# Altium footprint library OptoDevice.PcbLib: 103 footprints (part 6 of 7)
Each footprint in its own frame and in the unit in brackets; x right, y up, seen from the top. Pads: shape width x height; smd on the part's side, far side on the other; paste and mask are expansions set on the pad; w line width, h text height; cw(c..) or ccw(c..) is an arc to the next point about the centre after c.
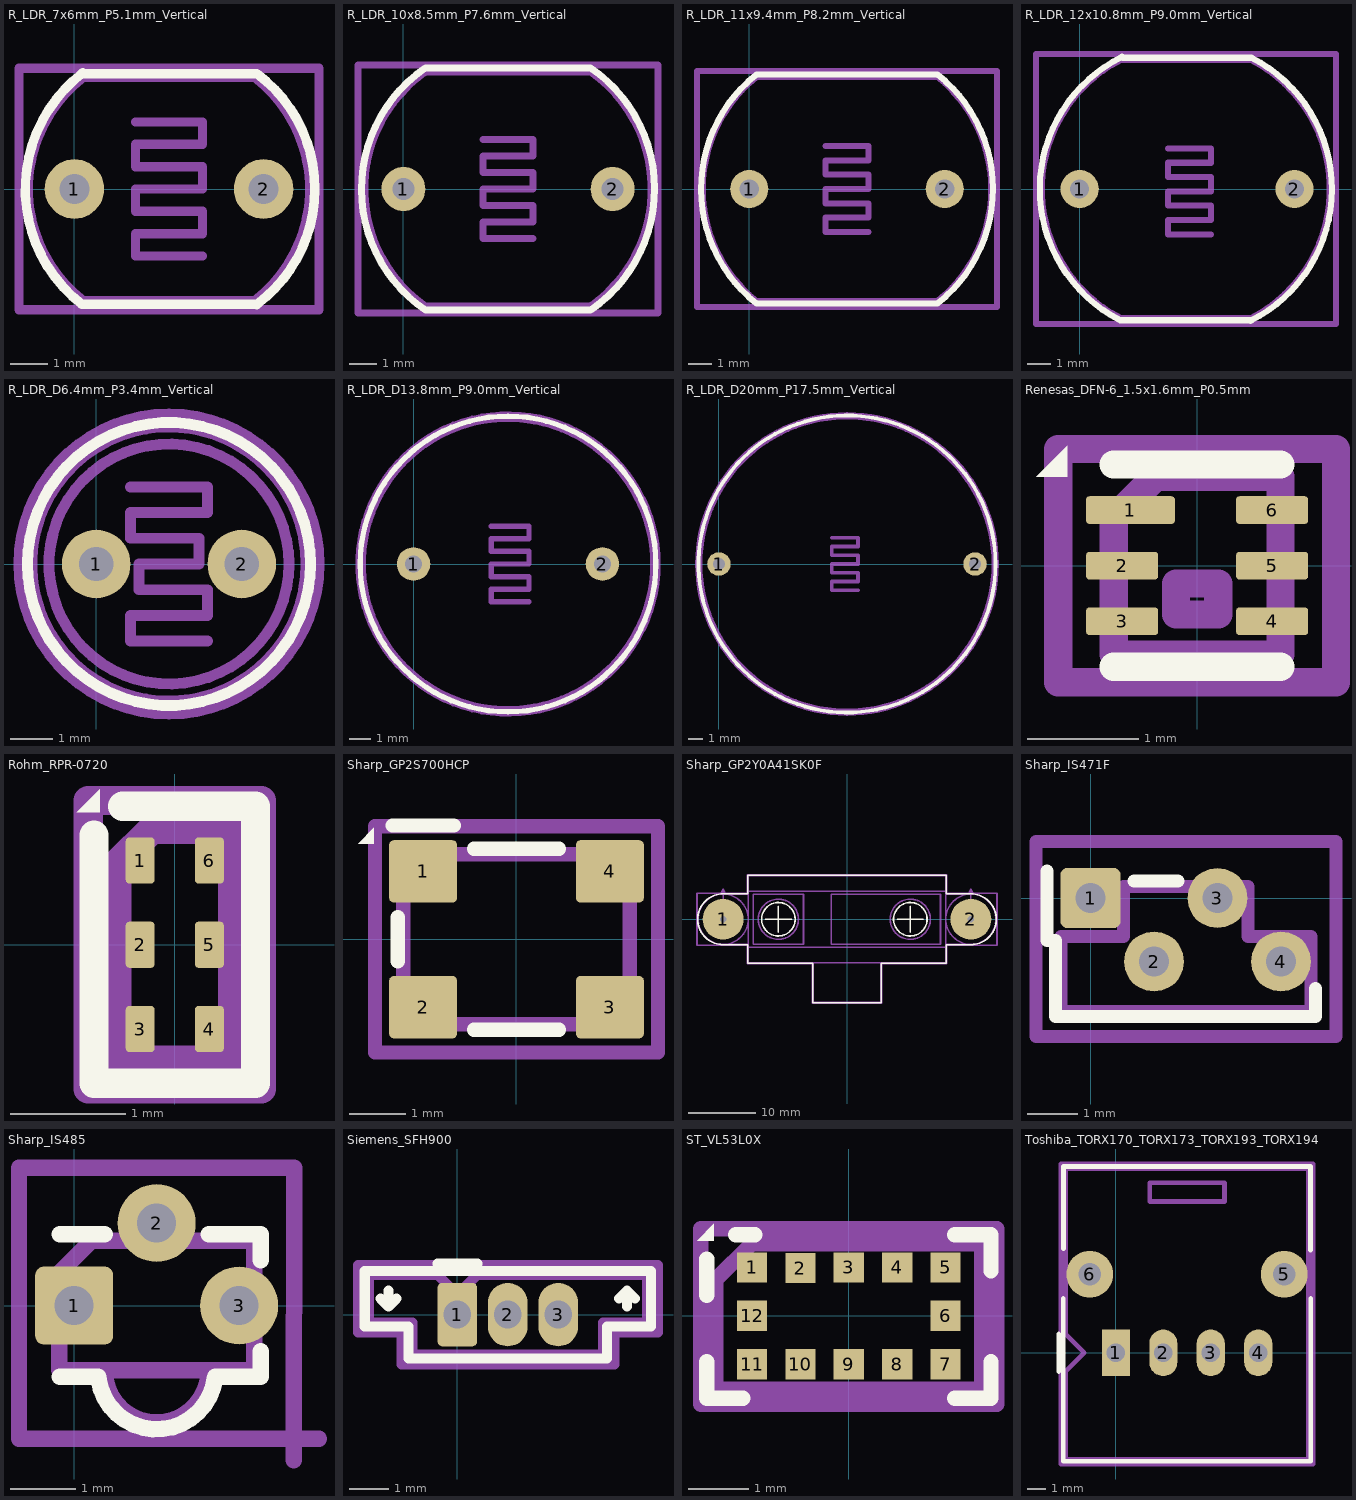
[diagram p5: the footprints below, top view; thin cyan lines are the x and y axes]

## R_LDR_7x6mm_P5.1mm_Vertical [mm]
pads (2):
  round 1.6 hole 0.8: 1(0,0) 2(5.08,0)
F.SilkS:
  lines w0.254: 0.2,3.1 4.9,3.1 cw(c2.6,0) 4.892,-3.106 ; 0.227,3.121 ccw(c2.6,0) 0.2,-3.1 4.9,-3.1
Top Assembly:
  lines w0.254: 0.238,2.998 ccw(c2.54,0) 0.24,-3 4.84,-3 ; 0.24,3 4.84,3 cw(c2.54,0) 4.842,-2.998 ; 1.64,1.8 3.44,1.8 3.44,1.2 1.64,1.2 1.64,0.6 3.44,0.6 3.44,0 1.64,0 1.64,-0.6 3.44,-0.6 3.44,-1.2 1.64,-1.2 1.64,-1.8 3.44,-1.8
  text "'.Designator'" at -1.507,2.97 h1
Top Courtyard:
  lines w0.254: -1.49,-3.25 6.57,-3.25 6.57,3.25 -1.49,3.25 -1.49,-3.25
Top Designator:
  text ".Designator" at -5.097,-0.113 h1.52
3D body "R_LDR_7x6mm_P5.1mm_Vertical.step": height 4, standoff -3, extent -0.95,-3 6.05,3

## R_LDR_10x8.5mm_P7.6mm_Vertical [mm]
pads (2):
  round 1.6 hole 0.8: 1(0,0) 2(7.6,0)
F.SilkS:
  lines w0.254: 0.767,4.378 ccw(c3.8,0) 0.8,-4.4 6.8,-4.4 ; 0.8,4.4 6.8,4.4 cw(c3.8,0) 6.833,-4.378
Top Assembly:
  lines w0.254: 0.758,4.22 ccw(c3.8,0) 0.8,-4.25 6.8,-4.25 ; 0.8,4.25 6.8,4.25 cw(c3.8,0) 6.842,-4.22 ; 2.9,1.8 4.7,1.8 4.7,1.2 2.9,1.2 2.9,0.6 4.7,0.6 4.7,0 2.9,0 2.9,-0.6 4.7,-0.6 4.7,-1.2 2.9,-1.2 2.9,-1.8 4.7,-1.8
  text "'.Designator'" at -0.247,1.66 h1
Top Courtyard:
  lines w0.254: -1.65,-4.5 9.25,-4.5 9.25,4.5 -1.65,4.5 -1.65,-4.5
Top Designator:
  text ".Designator" at -3.818,-0.508 h1.52
3D body "R_LDR_10x8.5mm_P7.6mm_Vertical.step": height 4, standoff -3, extent -1.2,-4.25 8.8,4.25

## R_LDR_11x9.4mm_P8.2mm_Vertical [mm]
pads (2):
  round 1.6 hole 0.8: 1(0,0) 2(8.2,0)
F.SilkS:
  lines w0.254: 0.278,4.782 ccw(c4.1,0) 0.3,-4.8 7.9,-4.8 ; 0.3,4.8 7.9,4.8 cw(c4.1,0) 7.922,-4.782
Top Assembly:
  lines w0.254: 0.293,4.694 ccw(c4.1,0) 0.3,-4.7 7.9,-4.7 ; 0.3,4.7 7.9,4.7 cw(c4.1,0) 7.907,-4.694 ; 3.2,1.8 5,1.8 5,1.2 3.2,1.2 3.2,0.6 5,0.6 5,0 3.2,0 3.2,-0.6 5,-0.6 5,-1.2 3.2,-1.2 3.2,-1.8 5,-1.8
  text "'.Designator'" at 0.053,1.66 h1
Top Courtyard:
  lines w0.254: -2.19,-4.95 10.39,-4.95 10.39,4.95 -2.19,4.95 -2.19,-4.95
Top Designator:
  text ".Designator" at -3.518,-0.508 h1.52
3D body "R_LDR_11x9.4mm_P8.2mm_Vertical.step": height 4, standoff -3, extent -1.4,-4.7 9.6,4.7

## R_LDR_12x10.8mm_P9.0mm_Vertical [mm]
pads (2):
  round 1.6 hole 0.8: 1(0,0) 2(9,0)
F.SilkS:
  lines w0.254: 1.78,5.54 ccw(c4.5,0) 1.7,-5.5 7.2,-5.5 ; 1.8,5.5 7.2,5.5 cw(c4.4,0) 7.16,-5.52
Top Assembly:
  lines w0.254: 3.7,1.7 5.5,1.7 5.5,1.1 3.7,1.1 3.7,0.5 5.5,0.5 5.5,-0.1 3.7,-0.1 3.7,-0.7 5.5,-0.7 5.5,-1.3 3.7,-1.3 3.7,-1.9 5.5,-1.9 ; 1.7,-5.4 cw(c4.5,0) 1.7,5.4 7.2,5.4 cw(c4.4,0) 7.2,-5.4 1.7,-5.4
  text "'.Designator'" at 0.553,1.66 h1
Top Courtyard:
  lines w0.254: -1.83,-5.65 10.74,-5.65 10.74,5.65 -1.83,5.65 -1.83,-5.65
Top Designator:
  text ".Designator" at -3.163,-0.508 h1.52
3D body "R_LDR_12x10.8mm_P9.0mm_Vertical.step": height 5, standoff -3, extent -1.5,-5.4 10.5,5.4

## R_LDR_D6.4mm_P3.4mm_Vertical [mm]
pads (2):
  round 1.6 hole 0.8: 1(0,0) 2(3.4,0)
F.SilkS:
  circle w0.254: c1.7,0 r3.302
Top Assembly:
  circle w0.254: c1.7,0 r3.2
  circle w0.254: c1.7,0 r2.8
  lines w0.254: 0.8,1.8 2.6,1.8 2.6,1.2 0.8,1.2 0.8,0.6 2.4,0.6 2.4,0 1,0 1,-0.6 2.6,-0.6 2.6,-1.2 0.8,-1.2 0.8,-1.8 2.6,-1.8
  text "'.Designator'" at -2.347,3.16 h1
Top Courtyard:
  circle w0.254: c1.7,0 r3.5
Top Designator:
  text ".Designator" at -6.068,-0.143 h1.52
3D body "R_LDR_D6.4mm_P3.4mm_Vertical.step": height 8.8, standoff -5, extent -1.55,-3.247 4.95,3.247

## R_LDR_D13.8mm_P9.0mm_Vertical [mm]
pads (2):
  round 1.6 hole 0.8: 1(0,0) 2(9,0)
F.SilkS:
  circle w0.254: c4.5,0 r7.05
Top Assembly:
  circle w0.254: c4.5,0 r6.9
  lines w0.254: 3.7,1.8 5.5,1.8 5.5,1.2 3.7,1.2 3.7,0.6 5.5,0.6 5.5,0 3.7,0 3.7,-0.6 5.5,-0.6 5.5,-1.2 3.7,-1.2 3.7,-1.8 5.5,-1.8
  text "'.Designator'" at 0.703,1.91 h1
Top Courtyard:
  circle w0.254: c4.5,0 r7.15
Top Designator:
  text ".Designator" at -3.118,-0.508 h1.52
3D body "R_LDR_D13.8mm_P9.0mm_Vertical.step": height 10.5, standoff -5, extent -2.4,-6.9 11.4,6.9

## R_LDR_D20mm_P17.5mm_Vertical [mm]
pads (2):
  round 1.6 hole 0.8: 1(0,0) 2(17.5,0)
F.SilkS:
  circle w0.254: c8.75,0 r10.15
Top Assembly:
  circle w0.254: c8.75,0 r10
  lines w0.254: 7.7,1.8 9.5,1.8 9.5,1.2 7.7,1.2 7.7,0.6 9.5,0.6 9.5,0 7.7,0 7.7,-0.6 9.5,-0.6 9.5,-1.2 7.7,-1.2 7.7,-1.8 9.5,-1.8
  text "'.Designator'" at 4.703,1.91 h1
Top Courtyard:
  circle w0.254: c8.75,0 r10.25
Top Designator:
  text ".Designator" at 1.132,-0.508 h1.52
3D body "R_LDR_D20mm_P17.5mm_Vertical.step": height 5, standoff -3, extent -1.25,-10 18.75,10

## Renesas_DFN-6_1.5x1.6mm_P0.5mm [mm]
pads (6):
  rrect25% 0.8x0.25 smd: 1(-0.6,0.5)
  rrect25% 0.65x0.25 smd: 2(-0.675,0) 3(-0.675,-0.5) 4(0.675,-0.5) 5(0.675,0) 6(0.675,0.5)
F.SilkS:
  region: -1.17,0.8 -1.45,0.8 -1.17,1.08
  lines w0.254: -0.75,-0.91 0.75,-0.91 ; -0.75,0.91 0.75,0.91
Top Assembly:
  lines w0.254: -0.75,-0.8 -0.75,0.425 -0.375,0.8 0.75,0.8 0.75,-0.8 -0.75,-0.8
  text "'.Designator'" at 0.42,-2.023 h0.5
Top Courtyard:
  lines w0.254: -1.25,-1.05 -1.25,1.05 1.25,1.05 1.25,-1.05 -1.25,-1.05
Top Designator:
  text ".Designator" at -7.654,-0.583 h1.52
Cmts.User:
  lines w0.254: -0.19,-0.44 -0.19,-0.16 0.19,-0.16 0.19,-0.44 -0.19,-0.44
  text "SENSOR" at -0.155,-0.355 h0.05

## Rohm_RPR-0720 [mm]
pads (6):
  rrect25% 0.25x0.4 smd: 1(-0.3,0.73) 2(-0.3,0) 3(-0.3,-0.73) 4(0.3,-0.73) 5(0.3,0) 6(0.3,0.73)
F.SilkS:
  region: -0.65,1.15 -0.85,1.15 -0.65,1.35
  lines w0.254: -0.7,0.95 -0.7,-1.2 0.7,-1.2 0.7,1.2 -0.45,1.2
Top Assembly:
  lines w0.254: -0.5,-1 -0.5,0.7 -0.2,1 0.5,1 0.5,-1 -0.5,-1
  text "'.Designator'" at 0.425,-2.028 h0.5
Top Courtyard:
  lines w0.254: -0.75,-1.25 -0.75,1.25 0.75,1.25 0.75,-1.25 -0.75,-1.25
Top Designator:
  text ".Designator" at -7.618,-0.588 h1.52

## Sharp_GP2S700HCP [mm]
pads (4):
  rrect14% 1.2x1.1 smd: 1(-1.65,1.2) 2(-1.65,-1.2) 3(1.65,-1.2) 4(1.65,1.2)
F.SilkS:
  region: -2.52,1.69 -2.8,1.69 -2.52,1.97
  lines w0.254: -2.19,2.01 -1.11,2.01 ; -2.1,-0.39 -2.1,0.39 ; -0.75,-1.6 0.75,-1.6 ; -0.75,1.6 0.75,1.6
Top Assembly:
  lines w0.254: -2,-1.5 -2,1.5 2,1.5 2,-1.5 -2,-1.5
  text "'.Designator'" at -3.073,-0.668 h0.75
Top Courtyard:
  lines w0.254: -2.5,-2 -2.5,2 2.5,2 2.5,-2 -2.5,-2
Top Designator:
  text ".Designator" at -7.768,-0.503 h1.52

## Sharp_GP2Y0A41SK0F [mm]
pads (2):
  round 6.1 hole 1: 1(-18.5,0) 2(18.5,0)
F.SilkS:
  circle w0.254: c9.45,0 r2.5
  circle w0.254: c-10.25,0 r2.5
  lines w0.254: -12.2,0 -8.3,0 ; -10.25,-1.95 -10.25,1.95 ; 7.5,0 11.4,0 ; 9.45,-1.95 9.45,1.95 ; -18.5,-3.8 cw(c-18.5,0) -18.5,3.8 -14.8,3.8 -14.8,6.55 14.8,6.55 14.8,3.8 18.5,3.8 cw(c18.5,0) 18.5,-3.8 14.8,-3.8 14.8,-6.55 5.1,-6.55 5.1,-12.45 -5.1,-12.45 -5.1,-6.55 -14.8,-6.55 -14.8,-3.8 -18.5,-3.8
Top Assembly:
  circle w0.254: c18.5,0 r3.75
  circle w0.254: c9.45,0 r3
  circle w0.254: c-10.25,0 r3
  circle w0.254: c-18.5,0 r3.75
  lines w0.254: -18.5,-3.75 -14.75,-3.75 ; -18.5,3.75 -14.75,3.75 ; -14.75,-4.2 14.75,-4.2 ; -14.75,4.2 14.75,4.2 ; -5.05,-6.5 -5.05,-12.4 5.05,-12.4 5.05,-6.5 ; 14.75,-3.75 18.5,-3.75 ; 14.75,3.75 18.5,3.75 ; -14.75,-6.5 14.75,-6.5 14.75,6.5 -14.75,6.5 -14.75,-6.5 ; -14,-3.75 -10.25,-3.75 -6.5,-3.75 -6.5,3.75 -14,3.75 -14,-3.75 ; -2.35,-3.75 13.95,-3.75 13.95,3.75 -2.35,3.75 -2.35,-3.75
  text "Detect" at 7.174,-0.65 h1
  text "Emitter" at -12.814,-0.674 h1
Top Courtyard:
  lines w0.254: -22.4,-3.9 -14.9,-3.9 -14.9,-6.6 -5.2,-6.6 -5.2,-12.5 5.2,-12.5 5.2,-6.6 14.9,-6.6 14.9,-3.9 22.4,-3.9 22.4,3.9 14.9,3.9 14.9,6.6 -14.9,6.6 -14.9,3.9 -22.4,3.9 -22.4,-3.9
Top Designator:
  text ".Designator" at -7.668,-3.458 h1.52
Dwgs.User:
  lines w0.254: -18.75,4 -18.5,4.5 ; -18.5,3 -18.5,4.5 ; -18.25,4 -18.5,4.5 ; 18.25,4 18.5,4.5 ; 18.5,3 18.5,4.5 ; 18.75,4 18.5,4.5
  text "Ø->3 for screw+nut" at -23.401,4.78 h0.5
  text "Ø->2,5 for thread M3" at -23.668,5.748 h0.5
  text "Ø->3 for screw+nut" at 15.715,4.78 h0.5
  text "Ø->2,5 for thread M3" at 15.956,5.748 h0.5
3D body "Sharp_GP2Y0A41SK0F.step": height 13.51, standoff 0.01, extent -22.25,-12.4 22.25,6.5

## Sharp_IS471F [mm]
pads (4):
  rrect21% 1.2x1.2 hole 0.6: 1(0,0)
  round 1.2 hole 0.6: 2(1.27,-1.27) 3(2.54,0) 4(3.81,-1.27)
F.SilkS:
  lines w0.254: -0.87,0.54 -0.87,-0.85 -0.7,-0.85 -0.7,-2.37 4.5,-2.37 4.5,-1.81 ; 0.87,0.34 1.75,0.34
Top Assembly:
  lines w0.254: -0.59,-2.27 4.41,-2.27 4.41,-0.77 3.15,-0.77 3.15,0.23 0.66,0.23 0.66,-0.77 -0.59,-0.77 -0.59,-2.27
  text "'.Designator'" at -2.137,0.91 h1
Top Courtyard:
  lines w0.254: -1.09,-2.77 4.91,-2.77 4.91,1.13 -1.09,1.13 -1.09,-2.77
Top Designator:
  text ".Designator" at -5.858,-0.903 h1.52
3D body "Sharp_IS471F.step": height 8.2, standoff -2.2, extent -0.595,-2.17 4.405,0.33

## Sharp_IS485 [mm]
pads (3):
  rrect21% 1.2x1.2 hole 0.6: 1(0,0)
  round 1.2 hole 0.6: 2(1.27,1.27) 3(2.54,0)
F.SilkS:
  lines w0.254: -0.22,-1.1 0.37,-1.1 ; -0.22,1.1 0.47,1.1 ; 0.375,-1.136 ccw(c1.27,-1) 2.17,-1.1 2.87,-1.1 2.87,-0.7 ; 2.07,1.1 2.87,1.1 2.87,0.7
Top Assembly:
  lines w0.254: 0.47,-1 ccw(c1.27,-1) 1.27,-1.8 ccw(c1.27,-1) 2.07,-1 ; -0.23,-1 2.77,-1 2.77,1 0.27,1 -0.23,0.5 -0.23,-1
  text "'.Designator'" at -1.563,-0.988 h0.7
Top Courtyard:
  lines w0.254: 3.38,-2.38 3.39,2.12 -0.85,2.12 -0.85,-2.05 3.77,-2.05
Top Designator:
  text ".Designator" at -6.453,-0.638 h1.52
3D body "Sharp_IS485.step": height 6.8, standoff -2.3, extent -0.23,-1.75 2.77,1.46

## Siemens_SFH900 [mm]
pads (3):
  rrect25% 1x1.6 hole 0.7: 1(0,0)
  rrect100% 1x1.6 hole 0.7: 2(1.27,0) 3(2.54,0)
F.SilkS:
  lines w0.254: -1.93,0.4 -1.73,0.2 ; -1.73,0.6 -1.73,0.2 ; -1.53,0.4 -1.73,0.2 ; -0.5,1.28 0.5,1.28 ; 4.07,0.4 4.27,0.6 ; 4.27,0.2 4.27,0.6 ; 4.47,0.4 4.27,0.6 ; -2.33,-0.3 -1.23,-0.3 -1.23,-1.1 3.77,-1.1 3.77,-0.3 4.87,-0.3 4.87,1.1 -2.33,1.1 -2.33,-0.3
Top Assembly:
  lines w0.254: -2.23,-0.2 -1.13,-0.2 -1.13,-1 3.67,-1 3.67,-0.2 4.77,-0.2 4.77,1 0.5,1 0,0.5 -0.5,1 -2.23,1 -2.23,-0.2
  text "'.Designator'" at -2.797,-0.84 h1
Top Courtyard:
  lines w0.254: -2.5,-0.45 -1.4,-0.45 -1.4,-1.25 3.95,-1.25 3.95,-0.45 5.05,-0.45 5.05,1.25 -2.5,1.25 -2.5,-0.45
Top Designator:
  text ".Designator" at -6.502,-0.493 h1.52
3D body "Siemens_SFH900.step": height 5, standoff -4, extent -2.23,-1 4.77,1.2

## ST_VL53L0X [mm]
pads (12):
  rect 0.5x0.5 smd: 1(-1.6,0.8) 2(-0.8,0.79) 3(0,0.8) 4(0.8,0.8) 5(1.6,0.8) 6(1.6,0) 7(1.6,-0.8) 8(0.8,-0.8) 9(0,-0.8) 10(-0.8,-0.8) 11(-1.6,-0.8) 12(-1.6,0)
F.SilkS:
  region: -2.23,1.24 -2.51,1.24 -2.23,1.52
  lines w0.254: -2.35,-0.76 -2.35,-1.36 -1.75,-1.36 ; -2.35,0.34 -2.35,0.94 ; -1.87,1.34 -1.55,1.34 ; 1.75,-1.36 2.35,-1.36 2.35,-0.76 ; 1.75,1.34 2.35,1.34 2.35,0.74
Top Assembly:
  lines w0.254: -2.2,0.59 -2.2,-1.21 2.2,-1.21 2.2,1.19 -1.6,1.19 ; -2.2,0.6 -1.61,1.19
  text "'.Designator'" at -4.047,-0.84 h1
Top Courtyard:
  lines w0.254: -2.45,-1.46 -2.45,1.44 2.45,1.44 2.45,-1.46 -2.45,-1.46
Top Designator:
  text ".Designator" at -7.768,-0.518 h1.52

## Toshiba_TORX170_TORX173_TORX193_TORX194 [mm]
pads (6):
  rect 1.5x2.5 hole 1: 1(0,0)
  rrect100% 1.5x2.5 hole 1: 2(2.54,0) 3(5.08,0) 4(7.62,0)
  round 2.5 hole 1.2: 5(9.01,4.2) 6(-1.39,4.2)
F.SilkS:
  lines w0.254: -3.05,-1 -3.05,1 ; -2.81,2.9 -2.81,-5.8 10.43,-5.8 10.43,2.9 ; -2.8,5.56 -2.8,9.96 10.42,9.96 10.42,5.5
Top Assembly:
  lines w0.254: -2.69,-5.7 10.26,-5.7 10.31,-5.7 10.31,9.85 -2.69,9.85 -2.69,1 -1.69,0 -2.69,-1 -2.69,-5.65 -2.69,-5.7 ; 1.81,8.1 5.81,8.1 5.81,9.1 1.81,9.1 1.81,8.1
  text "'.Designator'" at -0.237,1.235 h1
Top Courtyard:
  lines w0.254: -2.94,-5.95 10.56,-5.95 10.56,10.1 -2.94,10.1 -2.94,-5.95
Top Designator:
  text ".Designator" at -3.863,1.567 h1.52